# Altium footprint library SAMTEC_FTSH.PCBLIB: 2 footprints
Each footprint in its own frame and in the unit in brackets; x right, y up, seen from the top. Pads: shape width x height; smd on the part's side, far side on the other; paste and mask are expansions set on the pad; w line width, h text height; cw(c..) or ccw(c..) is an arc to the next point about the centre after c.
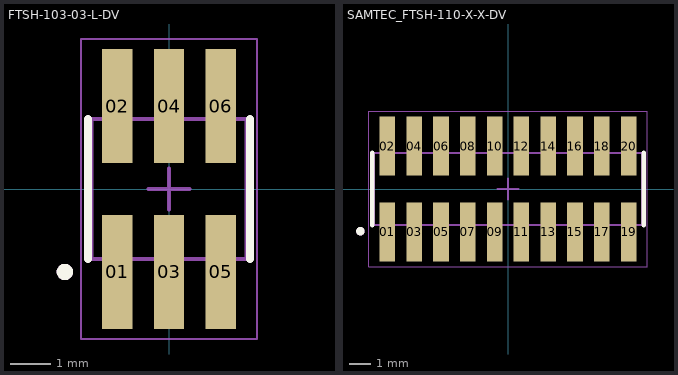
[diagram p0: the footprints below, top view; thin cyan lines are the x and y axes]

## FTSH-103-03-L-DV [mm]
pads (6):
  rect 0.74x2.79 smd: 01(-1.27,-2.035) 02(-1.27,2.035) 03(0,-2.035) 04(0,2.035) 05(1.27,-2.035) 06(1.27,2.035)
Top Overlay:
  circle w0.2: c-2.555,-2.035 r0.1
  lines w0.2: -1.99,-1.715 -1.99,1.715 ; 1.99,-1.715 1.99,1.715
Top Assembly:
  circle w0.2: c-2.555,-2.035 r0.1
  lines w0.1: -1.905,-1.715 -1.905,1.715 ; -1.905,-1.715 1.905,-1.715 ; -1.905,-1.715 -1.905,1.715 ; -1.905,1.715 1.905,1.715 ; -1.905,1.715 1.905,1.715 ; 1.905,-1.715 1.905,1.715 ; 1.905,-1.715 1.905,1.715
Top Courtyard:
  lines w0.05: -2.155,-3.68 2.155,-3.68 2.155,3.68 -2.155,3.68 -2.155,-3.68
Top Designator:
  text ".Designator" at -0.435,-0.344 h0.64
Top Component Center:
  lines w0.1: -0.5,0 0.5,0 ; 0,-0.5 0,0.5
3D body "step_temp.STEP": height 4.17, standoff -0.41, extent -1.905,-2.921 1.905,2.921

## SAMTEC_FTSH-110-X-X-DV [mm]
pads (20):
  rect 0.74x2.79 smd: 01(-5.715,-2.035) 02(-5.715,2.035) 03(-4.445,-2.035) 04(-4.445,2.035) 05(-3.175,-2.035) 06(-3.175,2.035) 07(-1.905,-2.035) 08(-1.905,2.035) 09(-0.635,-2.035) 10(-0.635,2.035) 11(0.635,-2.035) 12(0.635,2.035) 13(1.905,-2.035) 14(1.905,2.035) 15(3.175,-2.035) 16(3.175,2.035) 17(4.445,-2.035) 18(4.445,2.035) 19(5.715,-2.035) 20(5.715,2.035)
Top Overlay:
  circle w0.2: c-7,-2 r0.1
  lines w0.2: -6.435,-1.715 -6.435,1.715 ; 6.435,-1.715 6.435,1.715
Top Assembly:
  circle w0.2: c-7,-2 r0.1
  lines w0.1: -6.35,-1.715 -6.35,1.715 6.35,1.715 6.35,-1.715 -6.35,-1.715
Top Courtyard:
  lines w0.05: -6.6,-3.68 -6.6,3.68 6.6,3.68 6.6,-3.68 -6.6,-3.68
Top Designator:
  text ".Designator" at 0,0 h1
Top Component Center:
  lines w0.1: -0.5,0 0.5,0 ; 0,-0.5 0,0.5
3D body "FTSH-110-01-L-DV--3DModel-STEP-56544.STEP": height 5.97, standoff 0, extent -6.35,-2.921 6.35,2.921